# EAGLE library part C1722 (library trimble)
Condor C1722 GPS Receiver Module SMD GPS Receiver module, made by Trimble Navigation Ltd, Embedded Systems Group <http://www.trimble.com/embeddedsystems/> Partnumber: 68675-00 Datasheet, User Manual and Tools <http://www.trimble.com/timing/resolution-smt.aspx> Created by Trimble Navigation Ltd, Author: Christian Voit <mailto:christian_voit@trimble.com?subject=Trimble Eagle Library>
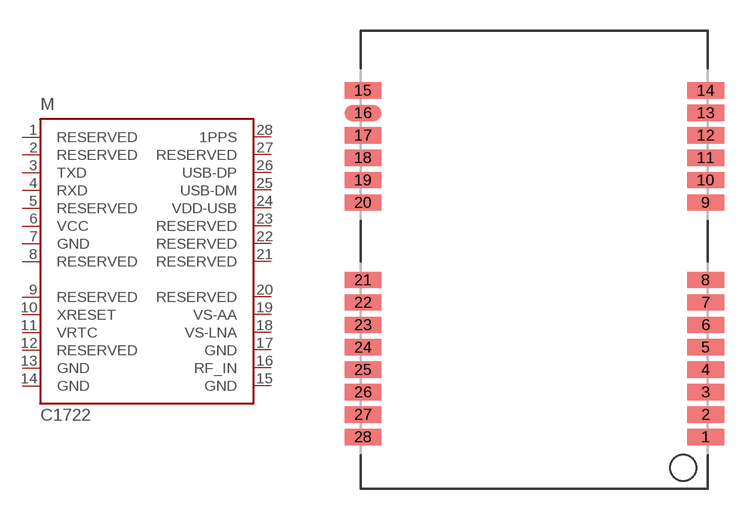
[diagram p5: symbol with the pads of 1722; footprint 1722]

Designator prefix M

## C1722-SMD  [1722]
1  RESERVED  nc
2  RESERVED  nc
3  TXD  out
4  RXD  in
5  RESERVED  nc
6  VCC  pwr
7  GND  pwr
8  RESERVED  nc
9  RESERVED  nc
10  XRESET  in
11  VRTC  in
12  RESERVED  nc
13  GND  pwr
14  GND  pwr
15  GND  pwr
16  RF_IN  in
17  GND  pwr
18  VS-LNA  in
19  VS-AA  out
20  RESERVED  nc
21  RESERVED  nc
22  RESERVED  nc
23  RESERVED  nc
24  VDD-USB  in
25  USB-DM
26  USB-DP
27  RESERVED  nc
28  1PPS  out

## Footprint 1722 (pad centres in mm)
Package 1722, 28-pads Size: 17 mm x 22 mm x 1.8 mm 28 SMD edge-castellation pads, 1.1 mm pad-pitch by Trimble Navigation Ltd, Embedded Systems Group <http://www.trimble.com/embeddedsystems/> Used for: Condor C1216 Created by Trimble Navigation Ltd, Author: Christian Voit <mailto:christian_voit@trimble.com?subject=Trimble Eagle Library>
smd 1.8 x 0.8: 1 8.4,-9.6; 2 8.4,-8.5; 3 8.4,-7.4; 4 8.4,-6.3; 5 8.4,-5.2; 6 8.4,-4.1; 7 8.4,-3; 8 8.4,-1.9; 9 8.4,1.9; 10 8.4,3; 11 8.4,4.1; 12 8.4,5.2; 13 8.4,6.3; 14 8.4,7.4; 15 -8.4,7.4; 16 -8.4,6.3; 17 -8.4,5.2; 18 -8.4,4.1; 19 -8.4,3; 20 -8.4,1.9; 21 -8.4,-1.9; 22 -8.4,-3; 23 -8.4,-4.1; 24 -8.4,-5.2; 25 -8.4,-6.3; 26 -8.4,-7.4; 27 -8.4,-8.5; 28 -8.4,-9.6